# EAGLE library part HX711 (library FansElectronics-Modul)
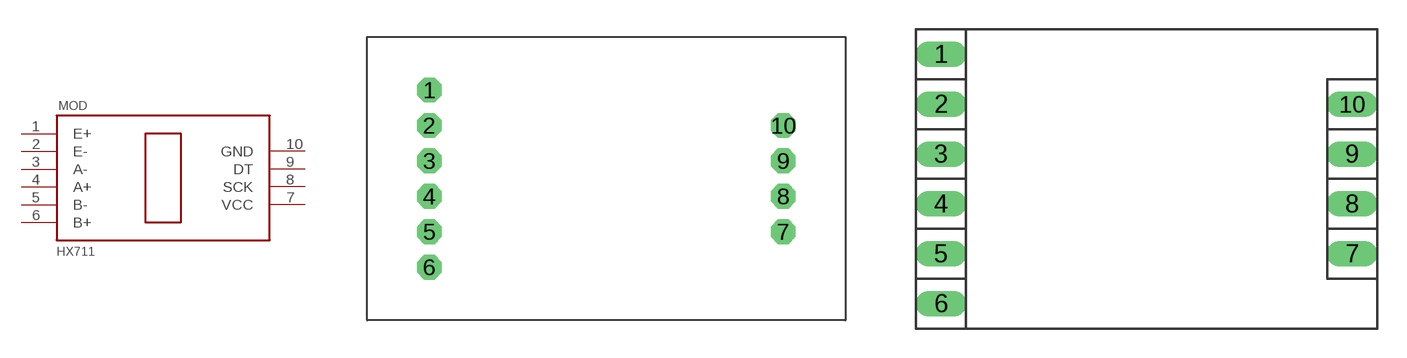
[diagram p12: symbol with the pads of HX711; footprints HX711, HX711-2]

Designator prefix MOD

## HX7111  [HX711]
1  E+
2  E-
3  A-
4  A+
5  B-
6  B+
7  VCC
8  SCK
9  DT
10  GND

## HX711  [HX711-2]
Pads as for HX711

## Footprint HX711 (pad centres in mm)
drill 0.8 pad 1.778 octagon: 1 -12.7,6.35; 2 -12.7,3.81; 3 -12.7,1.27; 4 -12.7,-1.27; 5 -12.7,-3.81; 6 -12.7,-6.35; 7 12.7,-3.81; 8 12.7,-1.27; 9 12.7,1.27; 10 12.7,3.81

## Footprint HX711-2 (pad centres in mm)
drill 0.8 long: 1 -10.16,6.35; 2 -10.16,3.81; 3 -10.16,1.27; 4 -10.16,-1.27; 5 -10.16,-3.81; 6 -10.16,-6.35; 7 10.795,-3.81; 8 10.795,-1.27; 9 10.795,1.27; 10 10.795,3.81